# Altium schematic symbol library Bourns.SchLib: 1 symbol
Pins are listed as number, name and electrical type; pins without a type are passive.

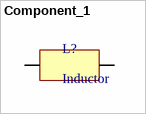
[diagram p0: symbol Component_1]

## Component_1
designator L?, comment Inductor
Supplier Part #: M8862-ND; Supplier: DigiKey
footprint 2120-RC (Bourne Inductor Footprint)
pins: 1, 2